# Altium footprint library others.PcbLib: 82 footprints (part 2 of 6)
Each footprint in its own frame and in the unit in brackets; x right, y up, seen from the top. Pads: shape width x height; smd on the part's side, far side on the other; paste and mask are expansions set on the pad; w line width, h text height; cw(c..) or ccw(c..) is an arc to the next point about the centre after c.
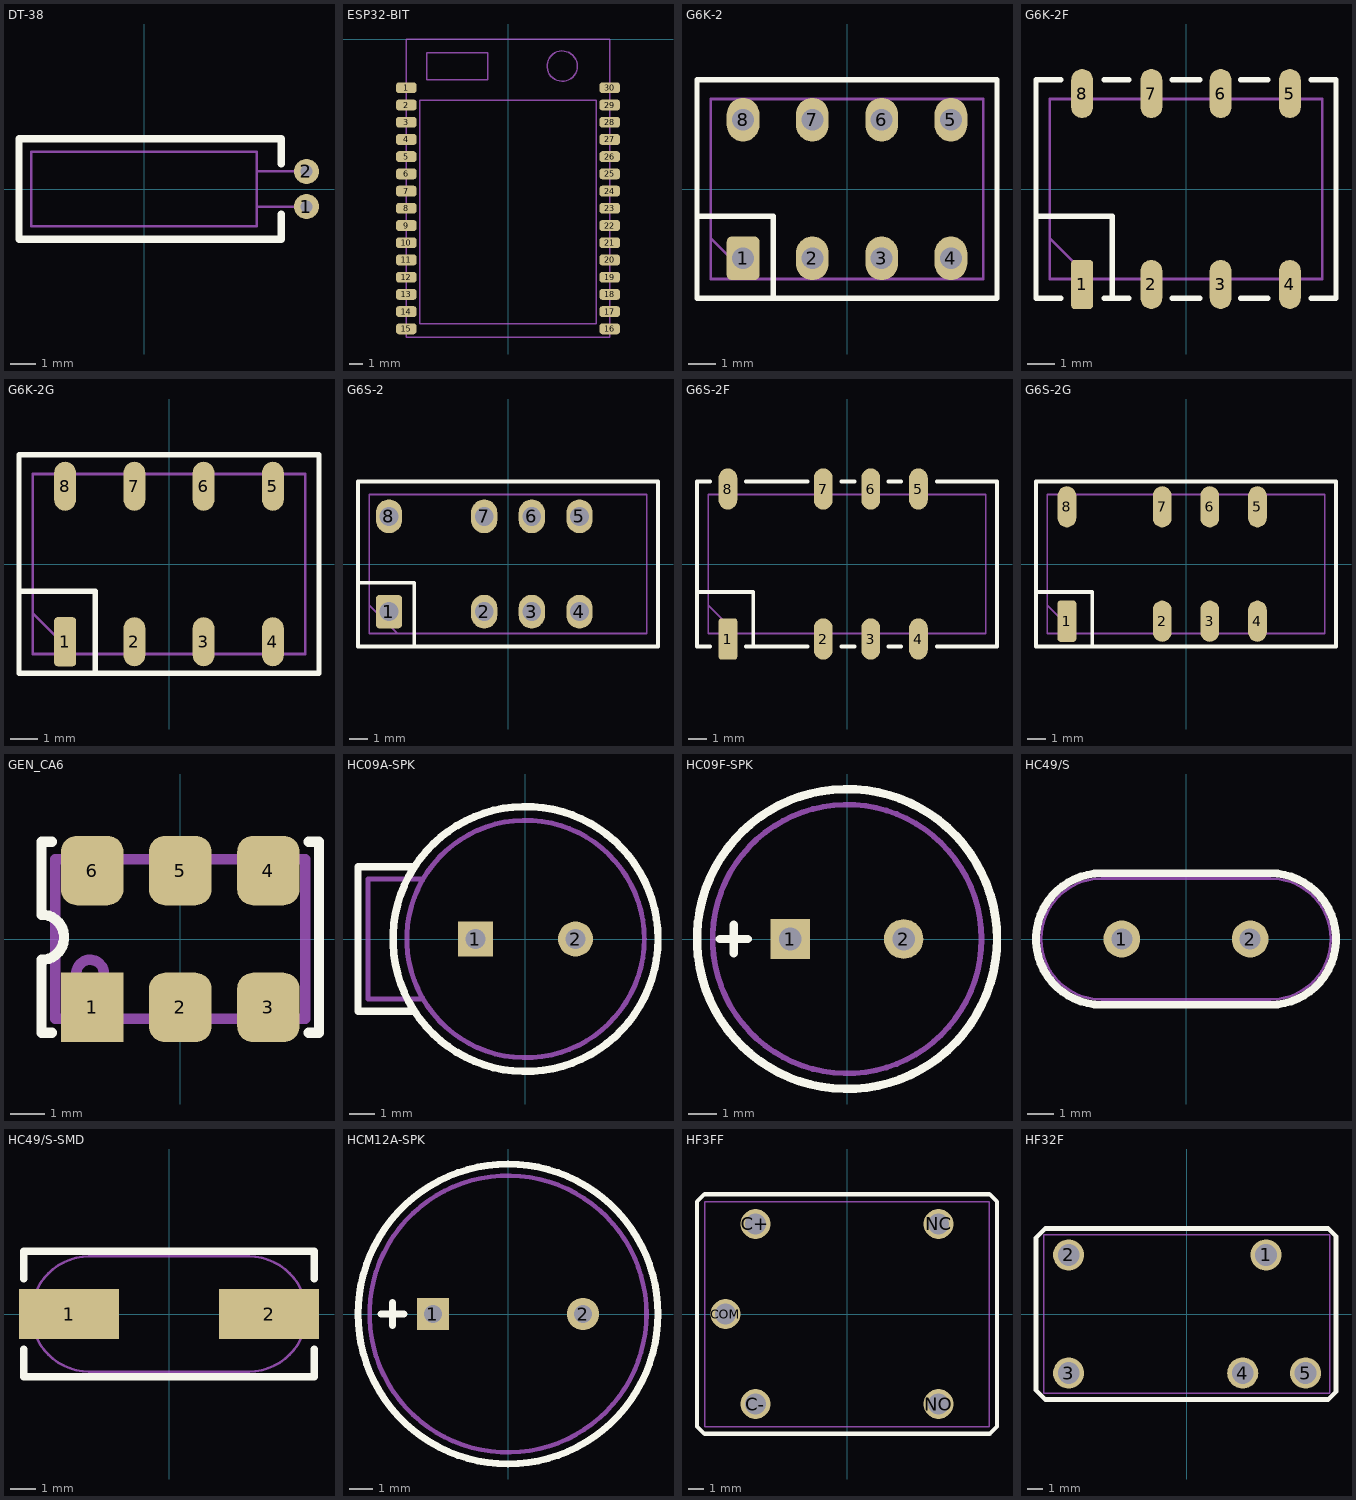
[diagram p1: the footprints below, top view; thin cyan lines are the x and y axes]

## DT-38 [mm]
height 3
pads (2):
  round 1 hole 0.5: 1(6.5,-0.7) 2(6.5,0.7)
Top Overlay:
  lines w0.3: 5.5,-1 5.5,-2 -5,-2 -5,2 5.5,2 5.5,1
Mechanical 1:
  lines w0.1: 4.5,-0.7 6.5,-0.7 ; 4.5,0.7 6.5,0.7 ; -4.5,-1.5 -4.5,1.5 4.5,1.5 4.5,-1.5 -4.5,-1.5
3D body: height 3, standoff 0, extent -4.5,-1.5 4.5,1.5

## ESP32-BIT [mm] "WiFi/BT module"
height 4
pads (30):
  rrect50% 1.5x0.8 smd: 1(-7.5,-3.6) 2(-7.5,-4.87) 3(-7.5,-6.14) 4(-7.5,-7.41) 5(-7.5,-8.68) 6(-7.5,-9.95) 7(-7.5,-11.22) 8(-7.5,-12.49) 9(-7.5,-13.76) 10(-7.5,-15.03) 11(-7.5,-16.3) 12(-7.5,-17.57) 13(-7.5,-18.84) 14(-7.5,-20.11) 15(-7.5,-21.38) 16(7.5,-21.38) 17(7.5,-20.11) 18(7.5,-18.84) 19(7.5,-17.57) 20(7.5,-16.3) 21(7.5,-15.03) 22(7.5,-13.76) 23(7.5,-12.49) 24(7.5,-11.22) 25(7.5,-9.95) 26(7.5,-8.68) 27(7.5,-7.41) 28(7.5,-6.14) 29(7.5,-4.87) 30(7.5,-3.6)
Mechanical 1:
  circle w0.1: c4,-2 r1.118
  lines w0.1: -7.5,-22 7.5,-22 7.5,0 -7.5,0 -7.5,-22 ; -6.5,-21 6.5,-21 6.5,-4.5 -6.5,-4.5 -6.5,-21 ; -6,-3 -1.5,-3 -1.5,-1 -6,-1 -6,-3
3D body: height 1, standoff 0.1, extent -7.5,-22 7.5,0
3D body: height 3, standoff 1, extent -6.5,-21 6.5,-4.5
3D body: height 2, standoff 1, extent -6,-3 -1.5,-1
3D body: height 2, standoff 1, extent 3.001,-3 5,-1

## G6K-2 [mm] "Relay signal"
height 5.4
pads (8):
  rrect30% 1.2x1.6 hole 0.8: 1(-3.81,-2.54)
  rrect100% 1.2x1.6 hole 0.8: 2(-1.27,-2.54) 3(1.27,-2.54) 4(3.81,-2.54) 5(3.81,2.54) 6(1.27,2.54) 7(-1.27,2.54) 8(-3.81,2.54)
Top Overlay:
  lines w0.2: -5.5,-1 -2.7,-1 -2.7,-4 ; -5.5,-4 5.5,-4 5.5,4 -5.5,4 -5.5,-4
Mechanical 1:
  lines w0.1: -5,-1.8 -3.5,-3.3 ; -5,-3.3 -5,3.3 5,3.3 5,-3.3 -5,-3.3
3D body: height 5.4, standoff 0.5, extent -5,-3.3 5,3.3

## G6K-2F [mm] "Relay signal"
height 5.4
pads (8):
  rrect30% 0.8x1.8 smd: 1(-3.81,-3.5)
  rrect100% 0.8x1.8 smd: 2(-1.27,-3.5) 3(1.27,-3.5) 4(3.81,-3.5) 5(3.81,3.5) 6(1.27,3.5) 7(-1.27,3.5) 8(-3.81,3.5)
Top Overlay:
  lines w0.2: -5.5,-1 -2.7,-1 -2.7,-4 ; -4.6,-4 -5.5,-4 -5.5,4 -4.6,4 ; -3,-4 -2.1,-4 ; -3,4 -2.1,4 ; -0.5,-4 0.5,-4 ; -0.5,4 0.5,4 ; 2,-4 3,-4 ; 2,4 3,4 ; 4.6,-4 5.5,-4 5.5,4 4.6,4
Mechanical 1:
  lines w0.1: -5,-1.8 -3.5,-3.3 ; -5,-3.3 5,-3.3 5,3.3 -5,3.3 -5,-3.3
3D body: height 5.4, standoff 0.5, extent -5,-3.3 5,3.3

## G6K-2G [mm] "Relay signal"
height 5.4
pads (8):
  rrect30% 0.8x1.8 smd: 1(-3.81,-2.85)
  rrect100% 0.8x1.8 smd: 2(-1.27,-2.85) 3(1.27,-2.85) 4(3.81,-2.85) 5(3.81,2.85) 6(1.27,2.85) 7(-1.27,2.85) 8(-3.81,2.85)
Top Overlay:
  lines w0.2: -5.5,-1 -2.7,-1 -2.7,-4 ; -5.5,-4 5.5,-4 5.5,4 -5.5,4 -5.5,-4
Mechanical 1:
  lines w0.1: -5,-1.8 -3.5,-3.3 ; -5,-3.3 -5,3.3 5,3.3 5,-3.3 -5,-3.3
3D body: height 5.4, standoff 0.5, extent -5,-3.3 5,3.3

## G6S-2 [mm] "Relay signal"
height 9.2
pads (8):
  rrect30% 1.4x1.8 hole 1: 1(-6.35,-2.54)
  rrect100% 1.4x1.8 hole 1: 2(-1.27,-2.54) 3(1.27,-2.54) 4(3.81,-2.54) 5(3.81,2.54) 6(1.27,2.54) 7(-1.27,2.54) 8(-6.35,2.54)
Top Overlay:
  lines w0.2: -8,-1 -5,-1 -5,-4.4 ; -8,-4.4 8,-4.4 8,4.4 -8,4.4 -8,-4.4
Mechanical 1:
  lines w0.1: -7.4,-2.2 -5.9,-3.7 ; -7.4,-3.7 -7.4,3.7 7.4,3.7 7.4,-3.7 -7.4,-3.7
3D body: height 9.2, standoff 0.5, extent -7.4,-3.7 7.4,3.7

## G6S-2F [mm] "Relay signal"
height 9.2
pads (8):
  rrect30% 1x2.2 smd: 1(-6.35,-4)
  rrect100% 1x2.2 smd: 2(-1.27,-4) 3(1.27,-4) 4(3.81,-4) 5(3.81,4) 6(1.27,4) 7(-1.27,4) 8(-6.35,4)
Top Overlay:
  lines w0.2: -8,-1.5 -5,-1.5 -5,-4.4 ; -7.3,-4.4 -8,-4.4 -8,4.4 -7.3,4.4 ; -5.4,-4.4 -2.1,-4.4 ; -5.4,4.4 -2.1,4.4 ; -0.3,-4.4 0.4,-4.4 ; -0.3,4.4 0.4,4.4 ; 2.2,-4.4 2.9,-4.4 ; 2.2,4.4 2.9,4.4 ; 4.8,-4.4 8,-4.4 8,4.4 4.8,4.4
Mechanical 1:
  lines w0.1: -7.4,-2.2 -5.9,-3.7 ; -7.4,-3.7 7.4,-3.7 7.4,3.7 -7.4,3.7 -7.4,-3.7
3D body: height 9.2, standoff 0.5, extent -7.4,-3.7 7.4,3.7

## G6S-2G [mm] "Relay signal"
height 9.2
pads (8):
  rrect30% 1x2.2 smd: 1(-6.35,-3.05)
  rrect100% 1x2.2 smd: 2(-1.27,-3.05) 3(1.27,-3.05) 4(3.81,-3.05) 5(3.81,3.05) 6(1.27,3.05) 7(-1.27,3.05) 8(-6.35,3.05)
Top Overlay:
  lines w0.2: -8,-1.5 -5,-1.5 -5,-4.4 ; -8,-4.4 -8,4.4 8,4.4 8,-4.4 -8,-4.4
Mechanical 1:
  lines w0.1: -7.4,-2.2 -5.9,-3.7 ; -7.4,-3.7 7.4,-3.7 7.4,3.7 -7.4,3.7 -7.4,-3.7
3D body: height 9.2, standoff 0.5, extent -7.4,-3.7 7.4,3.7

## GEN_CA6 [mm]
pads (6):
  rect 1.8x2 smd: 1(-2.54,-1.973)
  rrect50% 1.8x2 smd: 2(0,-1.973) 3(2.54,-1.973) 4(2.54,1.973) 5(0,1.973) 6(-2.54,1.973)
Top Overlay:
  lines w0.3: -3.7,-2.7 -4,-2.7 -4,-0.6 ccw(c-4,0.05) -4,0.7 -4,2.8 -3.7,2.8 ; 3.7,-2.7 4,-2.7 4,2.8 3.7,2.8
Mechanical 1:
  circle w0.3: c-2.6,-1 r0.4
  lines w0.3: -3.6,-2.3 -2.8,-2.3 cw(c-2.5,-2.3) -2.2,-2.3 2.2,-2.3 cw(c2.5,-2.3) 2.8,-2.3 3.6,-2.3 3.6,2.3 2.8,2.3 cw(c2.5,2.3) 2.2,2.3 -2.2,2.3 cw(c-2.5,2.3) -2.8,2.3 -3.6,2.3 -3.6,-2.3
3D body: height 1.7, standoff 0, extent -3.6,-2.3 3.6,2.3
3D body: height 2, standoff 0.4, extent -3.3,-2 3.3,2

## HC09A-SPK [mm] "Buzzer"
height 5
pads (2):
  rect 1.4x1.4 hole 0.8: 1(-2,0)
  round 1.4 hole 0.8: 2(2,0)
Top Overlay:
  circle w0.3: c0,0 r5.3
  lines w0.3: -4.5,-2.9 -6.7,-2.9 -6.7,2.9 -4.5,2.9
Mechanical 1:
  circle w0.2: c0,0 r4.75
  lines w0.2: -4.1,-2.4 -6.3,-2.4 -6.3,2.4 -4.1,2.4
3D body: height 5, standoff 0, extent -4.745,-4.749 4.75,4.749
3D body: height 4.8, standoff 1.5, extent -6.3,-2.4 -3,2.4
3D body: height 1, standoff -4, extent -2.248,-0.249 -1.75,0.25
3D body: height 1, standoff -4, extent 1.752,-0.249 2.25,0.25

## HC09F-SPK [mm] "Buzzer"
height 6.5
pads (2):
  rect 1.4x1.4 hole 0.8: 1(-2,0)
  round 1.4 hole 0.8: 2(2,0)
Top Overlay:
  circle w0.3: c0,0 r5.3
  lines w0.3: -4.5,0 -3.5,0 ; -4,-0.5 -4,0.5
Mechanical 1:
  circle w0.2: c0,0 r4.75
3D body: height 1, standoff -4, extent 1.752,-0.249 2.25,0.25
3D body: height 1, standoff -4, extent -2.248,-0.249 -1.75,0.25
3D body: height 6.5, standoff 0.1, extent -4.755,-4.763 4.76,4.759

## HC49/S [mm]
height 3.7
pads (2):
  round 1.4 hole 0.8: 1(-2.44,0) 2(2.44,0)
Top Overlay:
  lines w0.3: -3.2,-2.5 cw(c-3.2,0) -3.2,2.5 3.2,2.5 cw(c3.2,0) 3.2,-2.5 -3.2,-2.5
Mechanical 1:
  lines w0.1: -3.2,-2.3 cw(c-3.2,0) -3.2,2.3 3.2,2.3 cw(c3.2,0) 3.2,-2.3 -3.2,-2.3
3D body: height 0.5, standoff -3, extent 2.177,-0.25 2.675,0.25
3D body: height 0.5, standoff -3, extent -2.698,-0.25 -2.2,0.25
3D body: height 3.7, standoff 0.3, extent -3.2,-1.9 3.2,1.9
3D body: height 0.6, standoff 0.2, extent -5.482,-2.295 -0.9,2.295
3D body: height 0.6, standoff 0.2, extent 0.918,-2.295 5.5,2.295
3D body: height 0.6, standoff 0.2, extent -3.2,-2.3 3.2,2.3
3D body: height 3.7, standoff 0.3, extent -5.085,-1.896 -1.3,1.896
3D body: height 3.7, standoff 0.3, extent 1.315,-1.896 5.1,1.896

## HC49/S-SMD [mm]
height 4.2
pads (2):
  rect 4x2 smd: 1(-4,0) 2(4,0)
Top Overlay:
  lines w0.3: -5.8,-1.4 -5.8,-2.5 5.8,-2.5 5.8,-1.4 ; -5.8,1.4 -5.8,2.5 5.8,2.5 5.8,1.4
Mechanical 1:
  lines w0.1: -3.2,-2.3 cw(c-3.2,0) -3.2,2.3 3.2,2.3 cw(c3.2,0) 3.2,-2.3 -3.2,-2.3
3D body: height 4.2, standoff 0.3, extent 1.315,-1.896 5.1,1.896
3D body: height 4.2, standoff 0.3, extent -5.085,-1.896 -1.3,1.896
3D body: height 0.8, standoff 0, extent -5.5,-2.3 5.5,2.3
3D body: height 4.2, standoff 0.3, extent -3.2,-1.9 3.2,1.9

## HCM12A-SPK [mm] "Buzzer"
height 9
pads (2):
  rect 1.4x1.4 hole 0.8: 1(-3.25,0)
  round 1.4 hole 0.8: 2(3.25,0)
Top Overlay:
  circle w0.3: c0,0 r6.5
  lines w0.3: -5.5,0 -4.5,0 ; -5,-0.5 -5,0.5
Mechanical 1:
  circle w0.2: c0,0 r6
3D body: height 1, standoff -4, extent 3.002,-0.249 3.5,0.25
3D body: height 1, standoff -6, extent -3.498,-0.25 -3,0.25
3D body: height 9, standoff 0.1, extent -6.003,-6.008 6.009,6.009

## HF3FF [mm]
height 16
pads (5):
  round 2 hole 1.4: C+(-6.1,6) C-(-6.1,-6) COM(-8.1,0) NC(6.1,6) NO(6.1,-6)
Top Overlay:
  lines w0.3: -10,-7.5 -10,7.5 -9.5,8 9.5,8 10,7.5 10,-7.5 9.5,-8 -9.5,-8 -10,-7.5
Mechanical 1:
  lines w0.1: -9.5,-7.5 9.5,-7.5 9.5,7.5 -9.5,7.5 -9.5,-7.5
3D body: height 15.7, standoff 0.4, extent -9.51,-7.51 9.51,7.531

## HF32F [mm]
height 16
pads (5):
  round 2 hole 1.4: 1(5.1,3.8) 2(-7.6,3.8) 3(-7.6,-3.8) 4(3.6,-3.8) 5(7.64,-3.8)
Top Overlay:
  lines w0.3: -9.7,-4.9 -9.7,4.9 -9.1,5.5 9.1,5.5 9.6,5 9.6,-5 9.1,-5.5 -9.1,-5.5 -9.7,-4.9
Mechanical 1:
  lines w0.1: -9.2,-5.1 9.2,-5.1 9.2,5.1 -9.2,5.1 -9.2,-5.1
3D body: height 15.7, standoff 0.4, extent -9.206,-5.112 9.21,5.11